# Altium schematic symbol library STC_ICs.SchLib: 1 symbol
Pins are listed as number, name and electrical type; pins without a type are passive.

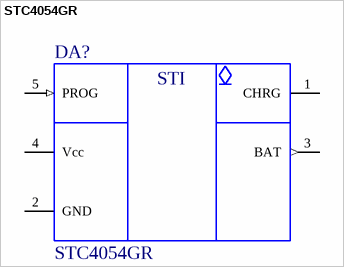
[diagram p0: symbol STC4054GR]

## STC4054GR
designator DA?
Battery charger with thermal regulation; ValueSch: STC4054GR
pins: 1 CHRG (oc) "Charge mode indicator", 2 GND (power) "Charge mode indicator", 3 BAT (out) "Output current to thr battery", 4 Vcc (power) "Output current to thr battery", 5 PROG (in) "Charge current program. Charge Current monitor and Shutdown pin"
text: STI